# Altium schematic symbol library SCH - POWER - LINEAR VREG - TI LM9036DT-5.0.SchLib: 1 symbol
Pins are listed as number, name and electrical type; pins without a type are passive.

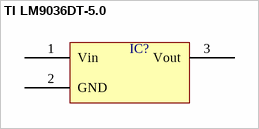
[diagram p0: symbol TI LM9036DT-5.0]

## TI LM9036DT-5.0
designator IC?  (value not drawn)
pins: 1 Vin, 2 GND, 3 Vout